# Altium schematic symbol library SCH_Active.SchLib: 32 symbols
Pins are listed as number, name and electrical type; pins without a type are passive.

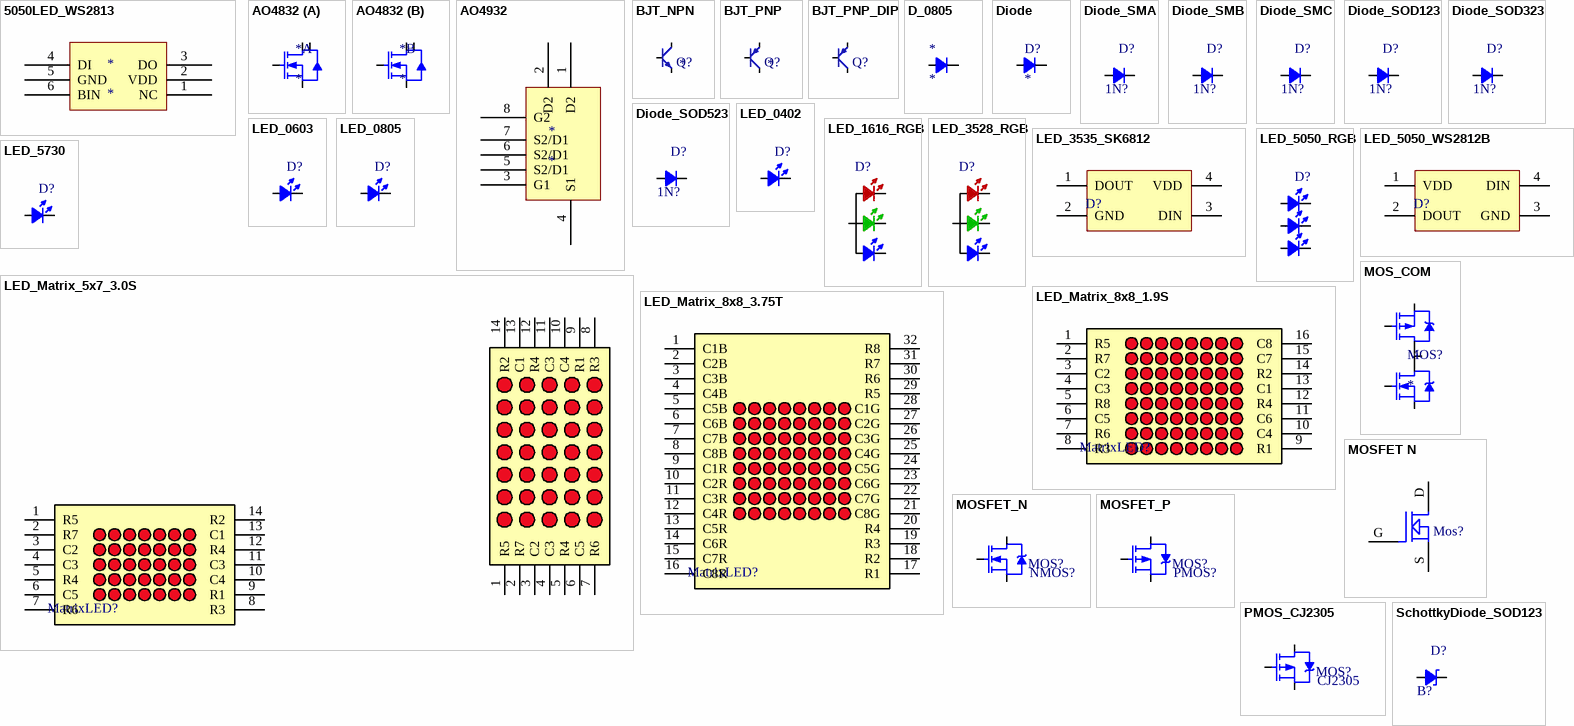
[diagram p0: symbols 5050LED_WS2813 to SchottkyDiode_SOD123]

## 5050LED_WS2813
designator *
footprint LED5050_WS2813
pins: 1 NC, 2 VDD, 3 DO, 4 DI, 5 GND, 6 BIN

## AO4832
designator *
footprint SOP_E150_8
part A pins: 1 S2, 2 G2, 7 D2, 8 D2
part B pins: 3 S1, 4 G1, 5 D1, 6 D1

## AO4932
designator *
footprint SOP_E150_8
pins: 1 D2, 2 D2, 3 G1, 4 S1, 5 S2/D1, 6 S2/D1, 7 S2/D1, 8 G2

## BJT_NPN
designator Q?  (value not drawn)
Transistor; Value: *
footprint SOT23-3
pins: 1 B, 2 E, 3 C

## BJT_PNP
designator Q?  (value not drawn)
Transistor; Value: *
footprint SOT23-3
pins: 1 B, 2 E, 3 C

## BJT_PNP_DIP
designator Q?  (value not drawn)
Transistor
footprint TO-92_HDR
pins: 1 E, 2 B, 3 C

## D_0805
designator *
footprint LED_0805_YELLOW
pins: 1 A, 2 K

## Diode
designator D?
Diode
footprint LED_0805_RED
pins: 1 A, 2 K

## Diode_SMA
designator D?  value 1N?  (hidden comment: Diode_SMA)
Diode
footprint DO-214AC (SMA)
pins: 1 A, 2 K

## Diode_SMB
designator D?  value 1N?  (hidden comment: Diode_SMB)
Diode
footprint DO-214AA (SMB)
pins: 1 A, 2 K

## Diode_SMC
designator D?  value 1N?  (hidden comment: Diode_SMC)
Diode
footprint DO-214AB (SMC)
pins: 1 A, 2 K

## Diode_SOD123
designator D?  value 1N?  (hidden comment: Diode_SOD123)
Diode
footprint SOD-123
pins: 1 A, 2 K

## Diode_SOD323
designator D?  value 1N?  (hidden comment: Diode_SOD323)
Diode
footprint SOD-323
pins: 1 A, 2 K

## Diode_SOD523
designator D?  value 1N?  (hidden comment: Diode_SOD523)
Diode
footprint SOD-523
pins: 1 A, 2 K

## LED_0402
designator D?  (value not drawn)
LED
footprint LED_0402_RED
footprint LED_0402_BLUE
footprint LED_0402_ORANGE
footprint LED_0402_YELLOW
footprint LED_0402_GREEN
pins: 1 A, 2 K

## LED_0603
designator D?  (value not drawn)
LED
footprint LED_0603_GREEN
footprint LED_0603_BLUE
footprint LED_0603_RED
footprint LED_0603_ORANGE
footprint LED_0603_YELLOW
pins: 1 A, 2 K

## LED_0805
designator D?  (value not drawn)
LED
footprint LED_0805_GREEN
footprint LED_0805_BLUE
footprint LED_0805_RED
footprint LED_0805_ORANGE
footprint LED_0805_YELLOW
pins: 1 A, 2 K

## LED_1616_RGB
designator D?  (value not drawn)
LED
footprint LED_1616_RGB
pins: 1 R, 2 G, 3 B, 4 A

## LED_3528_RGB
designator D?  (value not drawn)
LED
footprint LED_3528_RGB
pins: 1 R, 2 A, 3 G, 4 B

## LED_3535_SK6812
designator D?  (value not drawn)
LED
footprint LED_3535_4P
pins: 1 DOUT, 2 GND, 3 DIN, 4 VDD

## LED_5050_RGB
designator D?  (value not drawn)
LED
footprint 5050LED
footprint LED_5050_6P
pins: 1 K, 2 K, 3 K, 4 A, 5 A, 6 A

## LED_5050_WS2812B
designator D?  (value not drawn)
LED
footprint LED_5050_WS2812B
pins: 1 VDD, 2 DOUT, 3 GND, 4 DIN

## LED_5730
designator D?  (value not drawn)
LED
footprint LED_5730_WHITE
pins: 1 A, 2 K

## LED_Matrix_5x7_3.0S
designator MatrixLED?  (value not drawn)
MatrixLED
footprint LED_Matrix_5x7_3.0S
pins: 1 R5, 1 R5, 2 R7, 2 R7, 3 C2, 3 C2, 4 C3, 4 C3, 5 R4, 5 R4, 6 C5, 6 C5, 7 R6, 7 R6, 8 R3, 8 R3, 9 R1, 9 R1, 10 C4, 10 C4, 11 C3, 11 C3, 12 R4, 12 R4, 13 C1, 13 C1, 14 R2, 14 R2

## LED_Matrix_8x8_1.9S
designator MatrixLED?  (value not drawn)
MatrixLED
footprint LED_Matrix_8x8_1.9S (Footprint not found)
pins: 1 R5, 2 R7, 3 C2, 4 C3, 5 R8, 6 C5, 7 R6, 8 R3, 9 R1, 10 C4, 11 C6, 12 R4, 13 C1, 14 R2, 15 C7, 16 C8

## LED_Matrix_8x8_3.75T
designator MatrixLED?  (value not drawn)
MatrixLED
footprint LED_Matrix_8x8_3.75T
pins: 1 C1B, 2 C2B, 3 C3B, 4 C4B, 5 C5B, 6 C6B, 7 C7B, 8 C8B, 9 C1R, 10 C2R, 11 C3R, 12 C4R, 13 C5R, 14 C6R, 15 C7R, 16 C8R, 17 R1, 18 R2, 19 R3, 20 R4, 21 C8G, 22 C7G, 23 C6G, 24 C5G, 25 C4G, 26 C3G, 27 C2G, 28 C1G, 29 R5, 30 R6, 31 R7, 32 R8

## MOS_COM
designator MOS?
MOSFET
footprint TO252-4
pins: 1 S1, 2 G1, 4 S2, 5 G2, 6 D1/D2

## MOSFET N
designator Mos?  (value not drawn)
MOS SOT23
footprint Nmos_SOT23
pins: D, G, S

## MOSFET_N
designator MOS?  value NMOS?  (hidden comment: MOSFET_N)
MOSFET
footprint TO-252AA
pins: 1 G, 3 S, 4 D

## MOSFET_P
designator MOS?  value PMOS?  (hidden comment: MOSFET_P)
MOSFET
footprint TO-252AA
pins: 1 G, 3 S, 4 D

## PMOS_CJ2305
designator MOS?  value CJ2305  (hidden comment: PMOS_CJ2305)
MOSFET
footprint SOT23-3
pins: 1 G, 2 S, 3 D

## SchottkyDiode_SOD123
designator D?  value B?  (hidden comment: SchottkyDiode_SOD123)
Diode
footprint SOD-123
pins: 1 A, 2 K